# EAGLE library part LM61440AANRJRR (library LM61440AANRJRR)
Switching Controllers 3-V to 36-V, 4-A, low-noise synchronous step-down converter 14-VQFN-HR -40 to 150 Source: Datasheet <https://www.ti.com/lit/gpn/LM61440>
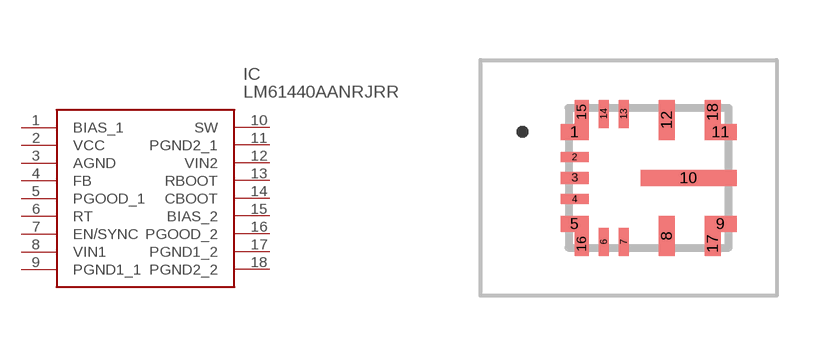
[diagram p0: symbol with the pads of LM61440AASQRJRRQ1; footprint LM61440AASQRJRRQ1]

Designator prefix IC

## LM61440AANRJRR (Description: Switching Controllers 3-V to 36-V, 4-A, low-noise synchronous step-down converter 14-VQFN-HR -40 to 150; Height: 1mm; Manufacturer_Name: Texas Instruments; Manufacturer_Part_Number: LM61440AANRJRR; Mouser_Part_Number: 595-LM61440AANRJRR; Mouser_Price-Stock: https://www.mouser.co.uk/ProductDetail/Texas-Instruments/LM61440AANRJRR?qs=vmHwEFxEFR8iu%252B2xr1IAew%3D%3D)  [LM61440AASQRJRRQ1]
1  BIAS_1
2  VCC
3  AGND
4  FB
5  PGOOD_1
6  RT
7  EN/SYNC
8  VIN1
9  PGND1_1
10  SW
11  PGND2_1
12  VIN2
13  RBOOT
14  CBOOT
15  BIAS_2
16  PGOOD_2
17  PGND1_2
18  PGND2_2

## Footprint LM61440AASQRJRRQ1 (pad centres in mm)
RJR0014A
smd 0.7 x 0.4: 1 -1.85,1.15; 5 -1.85,-1.15
smd 0.7 x 0.25: 2 -1.85,0.525; 4 -1.85,-0.525
smd 0.7 x 0.3: 3 -1.85,0
smd 0.25 x 0.7: 6 -1.125,-1.6; 7 -0.625,-1.6; 13 -0.625,1.6; 14 -1.125,1.6
smd 0.4 x 1: 8 0.45,-1.45; 12 0.45,1.45
smd 0.8 x 0.4: 9 1.8,-1.15; 11 1.8,1.15
smd 2.4 x 0.4: 10 1,0
smd 0.35 x 0.6: 15 -1.675,1.65; 16 -1.675,-1.65
smd 0.4 x 0.6: 17 1.6,-1.65; 18 1.6,1.65